# Altium footprint library PCB - LEADLESS - MISC - FLEX QFM-24 MOL.PCBLIB: 1 footprints
Each footprint in its own frame and in the unit in brackets; x right, y up, seen from the top. Pads: shape width x height; smd on the part's side, far side on the other; paste and mask are expansions set on the pad; w line width, h text height; cw(c..) or ccw(c..) is an arc to the next point about the centre after c.
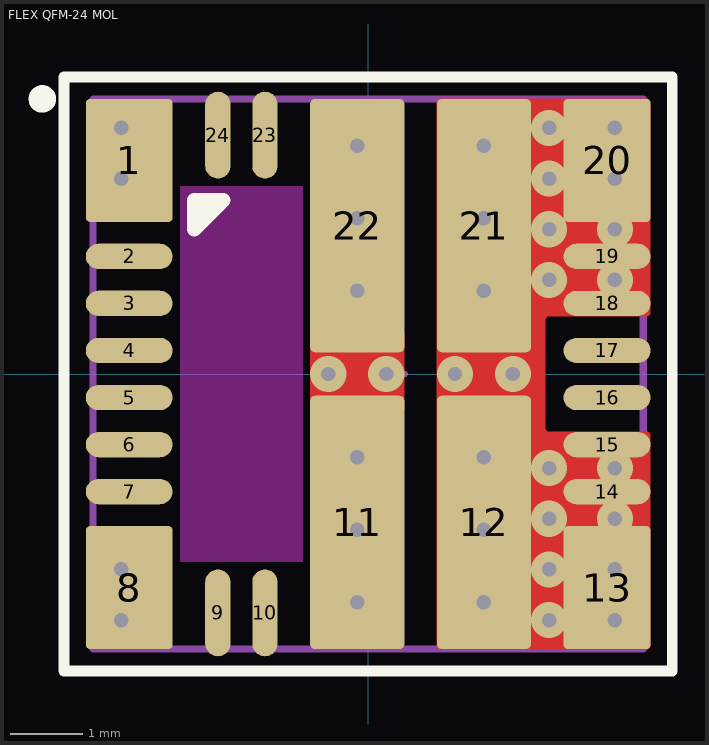
[diagram p0: the footprint, top view; thin cyan lines are the x and y axes]

## FLEX QFM-24 MOL [mm] "QFM 7.5 x 7.5 x 5.4 mm (0.3 x 0.3 x 0.21 in)"
height 5.4
pads (24):
  rrect10% 1.2x1.7 smd: 1(-3.3,2.95) 8(-3.3,-2.95) 13(3.3,-2.95) 20(3.3,2.95)
  oval 1.2x0.35 smd: 2(-3.3,1.625) 3(-3.3,0.975) 4(-3.3,0.325) 5(-3.3,-0.325) 6(-3.3,-0.975) 7(-3.3,-1.625) 14(3.3,-1.625) 15(3.3,-0.975) 16(3.3,-0.325) 17(3.3,0.325) 18(3.3,0.975) 19(3.3,1.625)
  oval 0.35x1.2 smd: 9(-2.075,-3.3) 10(-1.425,-3.3) 23(-1.425,3.3) 24(-2.075,3.3)
  rrect10% 1.3x3.5 smd: 11(-0.15,-2.05) 12(1.6,-2.05) 21(1.6,2.05) 22(-0.15,2.05)
via -0.15,3.15 diameter 0.5 hole 0.2
via -0.15,2.15 diameter 0.5 hole 0.2
via -0.15,1.15 diameter 0.5 hole 0.2
via -0.15,-3.15 diameter 0.5 hole 0.2
via -0.15,-2.15 diameter 0.5 hole 0.2
via -0.15,-1.15 diameter 0.5 hole 0.2
via 1.6,3.15 diameter 0.5 hole 0.2
via 1.6,2.15 diameter 0.5 hole 0.2
via 1.6,1.15 diameter 0.5 hole 0.2
via 1.6,-3.15 diameter 0.5 hole 0.2
via 1.6,-2.15 diameter 0.5 hole 0.2
via 1.6,-1.15 diameter 0.5 hole 0.2
via 1.2,0 diameter 0.5 hole 0.2
via 2,0 diameter 0.5 hole 0.2
via -0.55,0 diameter 0.5 hole 0.2
via 0.25,0 diameter 0.5 hole 0.2
via -3.41,-2.7 diameter 0.5 hole 0.2
via -3.41,-3.4 diameter 0.5 hole 0.2
via -3.41,2.7 diameter 0.5 hole 0.2
via -3.41,3.4 diameter 0.5 hole 0.2
via 3.41,1.3 diameter 0.5 hole 0.2
via 3.41,2 diameter 0.5 hole 0.2
via 3.41,2.7 diameter 0.5 hole 0.2
via 3.41,3.4 diameter 0.5 hole 0.2
via 3.41,-1.3 diameter 0.5 hole 0.2
via 3.41,-2 diameter 0.5 hole 0.2
via 3.41,-2.7 diameter 0.5 hole 0.2
via 3.41,-3.4 diameter 0.5 hole 0.2
via 2.5,-3.4 diameter 0.5 hole 0.2
via 2.5,-2.7 diameter 0.5 hole 0.2
via 2.5,-1.3 diameter 0.5 hole 0.2
via 2.5,-2 diameter 0.5 hole 0.2
via 2.5,1.3 diameter 0.5 hole 0.2
via 2.5,3.4 diameter 0.5 hole 0.2
via 2.5,2.7 diameter 0.5 hole 0.2
via 2.5,2 diameter 0.5 hole 0.2
Top Layer:
  rectangle: -0.8,-0.5 0.5,0.575
  region: 2.45,0.75 2.451,0.76 2.458,0.778 2.472,0.792 2.49,0.799 2.5,0.8 3.85,0.8 3.86,0.8 3.878,0.808 3.892,0.822 3.9,0.84 3.9,0.85 3.9,3.75 3.9,3.76 3.892,3.778 3.878,3.792 3.86,3.8 3.85,3.8 1,3.8 0.99,3.8 0.972,3.792 0.958,3.778 0.95,3.76 0.95,3.75 0.95,-0.05 2.45,-0.05
  region: 2.45,-0.75 2.451,-0.76 2.458,-0.778 2.472,-0.792 2.49,-0.799 2.5,-0.8 3.85,-0.8 3.86,-0.8 3.878,-0.808 3.892,-0.822 3.9,-0.84 3.9,-0.85 3.9,-3.75 3.9,-3.76 3.892,-3.778 3.878,-3.792 3.86,-3.8 3.85,-3.8 1,-3.8 0.99,-3.8 0.972,-3.792 0.958,-3.778 0.95,-3.76 0.95,-3.75 0.95,0.05 2.45,0.05
Top Layer keep-out:
  rectangle: -2.6,-2.6 -0.9,2.6
Top Overlay:
  circle w0.2: c-4.5,3.8 r0.09
  region: -2,2.4 -2.4,2.4 -2.4,2
  lines w0.15: -4.2,-4.1 -4.2,4.1 4.2,4.1 4.2,-4.1 -4.2,-4.1
  lines w0.2: -2.4,2 -2,2.4 -2.4,2.4 -2.4,2
Mechanical 13:
  circle w0.1: c-3.2,3.2 r0.25
  lines w0.1: -3.8,-3.8 -3.8,3.8 3.8,3.8 3.8,-3.8 -3.8,-3.8
Mechanical 15:
  lines w0.05: -4.2,-4.1 4.2,-4.1 4.2,4.1 -4.2,4.1 -4.2,-4.1
  lines w0.1: -0.5,0 0.5,0 ; 0,-0.5 0,0.5
3D body "FLEX - QFM-24 MOL.step": height 4.01, standoff 0, extent -3.75,-3.75 3.752,3.75